# EAGLE library part SN75LVDS83B (library X893)
http://www.ti.com/lit/ds/symlink/sn75lvds83b.pdf
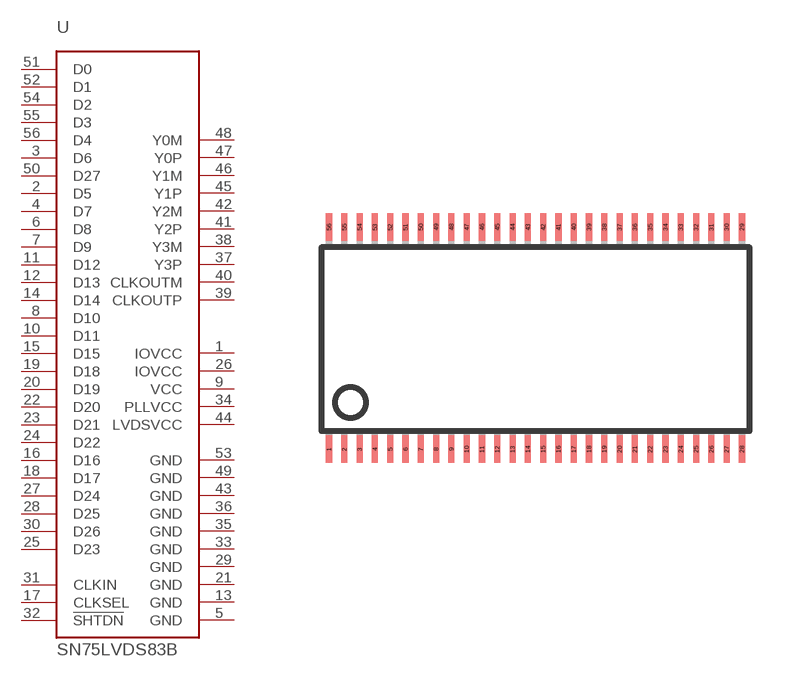
[diagram p188: symbol with the pads of TSSOP56-6; footprint TSSOP56-6]

Designator prefix U

## SN75LVDS83B  [TSSOP56-6]
1  IOVCC  pwr
2  D5  in
3  D6  in
4  D7  in
5  GND  pwr
6  D8  in
7  D9  in
8  D10  in
9  VCC  pwr
10  D11  in
11  D12  in
12  D13  in
13  GND  pwr
14  D14  in
15  D15  in
16  D16  in
17  CLKSEL  in
18  D17  in
19  D18  in
20  D19  in
21  GND  pwr
22  D20  in
23  D21  in
24  D22  in
25  D23  in
26  IOVCC  pwr
27  D24  in
28  D25  in
29  GND  pwr
30  D26  in
31  CLKIN  in
32  !SHTDN  in
33  GND  pwr
34  PLLVCC  pwr
35  GND  pwr
36  GND  pwr
37  Y3P  pas
38  Y3M  pas
39  CLKOUTP  pas
40  CLKOUTM  pas
41  Y2P  pas
42  Y2M  pas
43  GND  pwr
44  LVDSVCC  pwr
45  Y1P  pas
46  Y1M  pas
47  Y0P  pas
48  Y0M  pas
49  GND  pwr
50  D27  in
51  D0  in
52  D1  in
53  GND  pwr
54  D2  in
55  D3  in
56  D4  in

## Footprint TSSOP56-6 (pad centres in mm)
TSSOP56 Plastic thin shrink small outline package; 56 leads; body width 6.1mm AKA SOT364-1 Source: http://www.nxp.com/acrobat_download/datasheets/PCA9505_9506_3.pdf
smd 0.2 x 0.9: 1 -6.75,-3.6; 2 -6.25,-3.6; 3 -5.75,-3.6; 4 -5.25,-3.6; 5 -4.75,-3.6; 6 -4.25,-3.6; 7 -3.75,-3.6; 8 -3.25,-3.6; 9 -2.75,-3.6; 10 -2.25,-3.6; 11 -1.75,-3.6; 12 -1.25,-3.6; 13 -0.75,-3.6; 14 -0.25,-3.6; 15 0.25,-3.6; 16 0.75,-3.6; 17 1.25,-3.6; 18 1.75,-3.6; 19 2.25,-3.6; 20 2.75,-3.6; 21 3.25,-3.6; 22 3.75,-3.6; 23 4.25,-3.6; 24 4.75,-3.6; 25 5.25,-3.6; 26 5.75,-3.6; 27 6.25,-3.6; 28 6.75,-3.6; 29 6.75,3.66; 30 6.25,3.66; 31 5.75,3.66; 32 5.25,3.66; 33 4.75,3.66; 34 4.25,3.66; 35 3.75,3.66; 36 3.25,3.66; 37 2.75,3.66; 38 2.25,3.66; 39 1.75,3.66; 40 1.25,3.66; 41 0.75,3.66; 42 0.25,3.66; 43 -0.25,3.66; 44 -0.75,3.66; 45 -1.25,3.66; 46 -1.75,3.66; 47 -2.25,3.66; 48 -2.75,3.66; 49 -3.25,3.66; 50 -3.75,3.66; 51 -4.25,3.66; 52 -4.75,3.66; 53 -5.25,3.66; 54 -5.75,3.66; 55 -6.25,3.66; 56 -6.75,3.66